# Altium schematic symbol library RES,1k2,5%,1W,Pulse Withstand,Axial,Thru.Schlib: 1 symbol
Pins are listed as number, name and electrical type; pins without a type are passive.

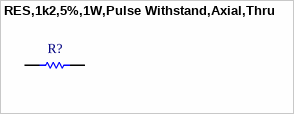
[diagram p0: symbol RES,1k2,5%,1W,Pulse Withstand,Axial,Thru]

## RES,1k2,5%,1W,Pulse Withstand,Axial,Thru
designator R?
pins: 1, 2